# Altium footprint library pin li-on 3x5cm.PcbLib: 1 footprints
Each footprint in its own frame and in the unit in brackets; x right, y up, seen from the top. Pads: shape width x height; smd on the part's side, far side on the other; paste and mask are expansions set on the pad; w line width, h text height; cw(c..) or ccw(c..) is an arc to the next point about the centre after c.
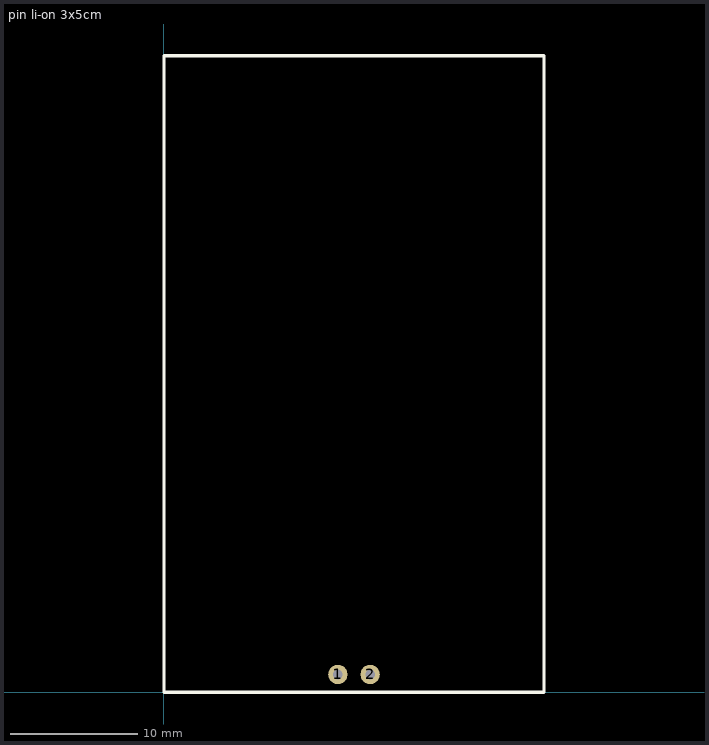
[diagram p0: the footprint, top view; thin cyan lines are the x and y axes]

## pin li-on 3x5cm [mil]
pads (2):
  round 60 hole 30: 1(540,55) 2(640,55)
Top Overlay:
  lines w10: 0,0 1180,0 1180,1975 0,1975 0,0
3D body: height 157.48, standoff 0, extent -5,105 1180,1980
3D body: height 78.74, standoff 0, extent 100,-5 1085,105